# Altium footprint library 452403012014.PcbLib: 1 footprints
Each footprint in its own frame and in the unit in brackets; x right, y up, seen from the top. Pads: shape width x height; smd on the part's side, far side on the other; paste and mask are expansions set on the pad; w line width, h text height; cw(c..) or ccw(c..) is an arc to the next point about the centre after c.
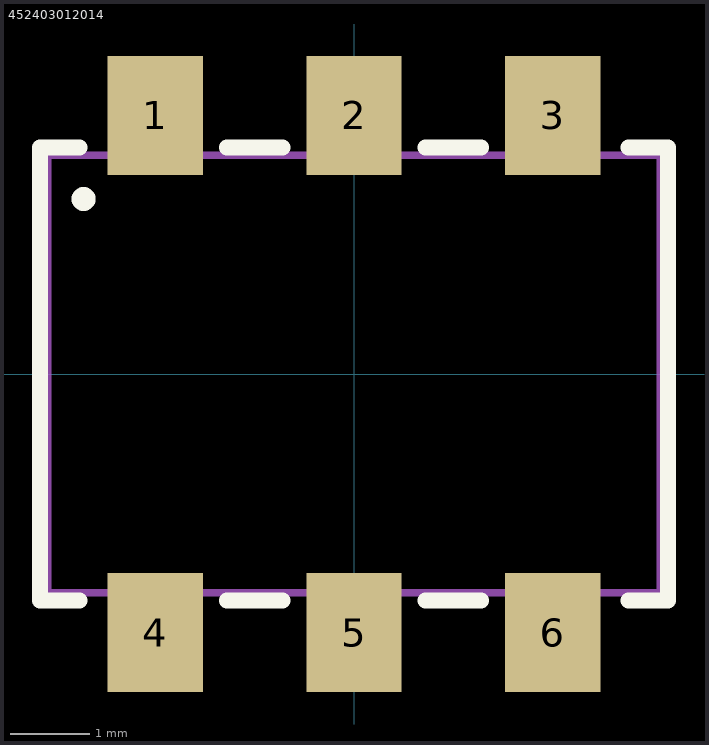
[diagram p0: the footprint, top view; thin cyan lines are the x and y axes]

## 452403012014 [mm]
pads (6):
  rect 1.2x1.5 smd: 1(-2.5,3.25) 2(0,3.25) 3(2.5,3.25) 4(-2.5,-3.25) 5(0,-3.25) 6(2.5,-3.25)
Top Overlay:
  circle w0.2: c-3.4,2.2 r0.05
  lines w0.2: -3.45,-2.85 -3.95,-2.85 -3.95,2.85 -3.45,2.85 ; -1.6,-2.85 -0.9,-2.85 ; -1.6,2.85 -0.9,2.85 ; 0.9,-2.85 1.6,-2.85 ; 0.9,2.85 1.6,2.85 ; 3.45,-2.85 3.95,-2.85 3.95,2.85 3.45,2.85
Mechanical 13:
  lines w0.1: -3.85,-2.75 -3.85,2.75 3.85,2.75 3.85,-2.75 -3.85,-2.75